# Altium schematic symbol library SCH - DIODES - SCHOTTKY.SCHLIB: 2 symbols
Pins are listed as number, name and electrical type; pins without a type are passive.

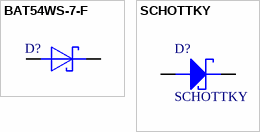
[diagram p0: symbols BAT54WS-7-F to SCHOTTKY]

## BAT54WS-7-F
designator D?
Diode, Schottky, 0.1A, 30V
pins: 1 A, 2 K

## SCHOTTKY
designator D?
pins: 1 KATHODE, 2 ANODE